# Altium footprint library 便携T12烙铁.PcbLib: 19 footprints (part 2 of 2)
Each footprint in its own frame and in the unit in brackets; x right, y up, seen from the top. Pads: shape width x height; smd on the part's side, far side on the other; paste and mask are expansions set on the pad; w line width, h text height; cw(c..) or ccw(c..) is an arc to the next point about the centre after c.
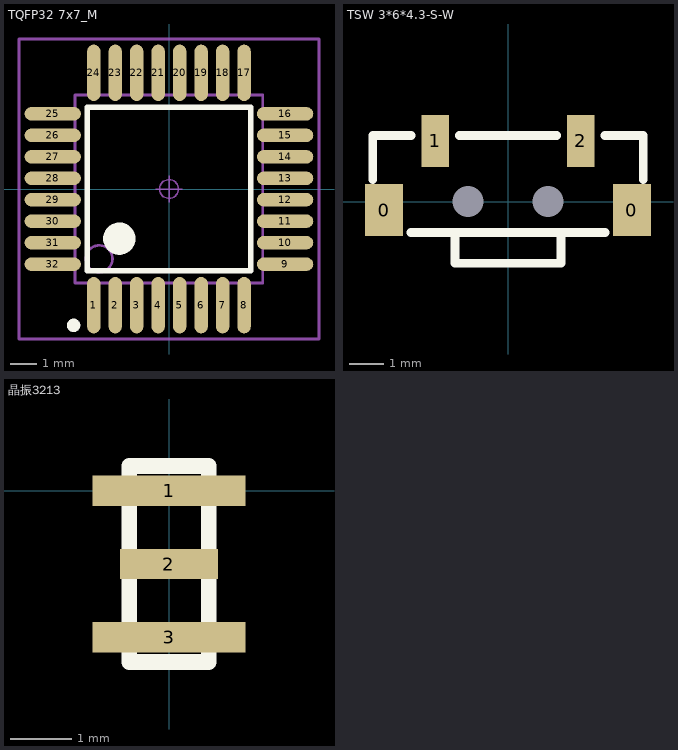
[diagram p1: the footprints below, top view; thin cyan lines are the x and y axes]

## TQFP32 7x7_M [mm] "32脚，体宽：7x7mm, 脚距：0.8mm ATMEGA328P-AU"
height 1.2
pads (32):
  oval 0.5x2.1 smd: 1(-2.803,-4.327) 2(-2.003,-4.327) 3(-1.203,-4.327) 4(-0.403,-4.327) 5(0.397,-4.327) 6(1.197,-4.327) 7(1.997,-4.327) 8(2.797,-4.327) 17(2.797,4.327) 18(1.997,4.327) 19(1.197,4.327) 20(0.397,4.327) 21(-0.403,4.327) 22(-1.203,4.327) 23(-2.003,4.327) 24(-2.803,4.327)
  oval 2.1x0.5 smd: 9(4.324,-2.8) 10(4.324,-2) 11(4.324,-1.2) 12(4.324,-0.4) 13(4.324,0.4) 14(4.324,1.2) 15(4.324,2) 16(4.324,2.8) 25(-4.33,2.8) 26(-4.33,2) 27(-4.33,1.2) 28(-4.33,0.4) 29(-4.33,-0.4) 30(-4.33,-1.2) 31(-4.33,-2) 32(-4.33,-2.8)
Top Overlay:
  circle w0.25: c-3.556,-5.08 r0.125
  circle w0.6: c-1.853,-1.85 r0.3
  lines w0.2: -3.048,-3.048 3.048,-3.048 3.048,3.048 -3.048,3.048 -3.048,-3.048
Mechanical 13:
  circle w0.1: c-2.603,-2.6 r0.5
  lines w0.1: -3.503,-3.5 3.497,-3.5 3.497,3.5 -3.503,3.5 -3.503,-3.5
Mechanical 15:
  circle w0.05: c0,0 r0.35
  lines w0.05: -0.5,0 0.5,0 ; 0,-0.5 0,0.5
  lines w0.1: -5.588,-5.588 5.588,-5.588 5.588,5.588 -5.588,5.588 -5.588,-5.588
3D body "TQFP32 7x7.STEP": height 1.05, standoff 0, extent -4.505,-4.502 4.499,4.502

## TSW 3*6*4.3-S-W [mm] "侧立贴片3*6*4.3"
pads (6):
  rect 1.1x1.5 smd: 0(-3.575,-0.25) 0(3.575,-0.25)
  round 0 hole 0.9: 0(-1.15,0) 0(1.15,0)
  rect 0.8x1.5 smd: 1(-2.1,1.75) 2(2.1,1.75)
Top Overlay:
  lines w0.254: -3.9,0.635 -3.9,1.9 -3.895,1.905 -2.794,1.905 ; -2.794,-0.889 2.794,-0.889 ; -1.524,-0.889 -1.524,-1.778 1.524,-1.778 1.524,-0.889 ; -1.397,1.905 1.397,1.905 ; 2.794,1.905 3.895,1.905 3.9,1.91 3.9,0.635
3D body "TSW 3x6x4.3-S-W.STEP": height 3.51, standoff -0.74, extent -3.9,-1.79 3.9,1.91

## 晶振3213 [mil] "晶振3213"
pads (3):
  rect 98.5x19.6 smd: 1(0,0) 3(0,-94.4)
  rect 63x19.6 smd: 2(-0.05,-47.2)
Top Overlay:
  lines w10: -25.55,-110.2 25.55,-110.2 25.55,15.8 -25.55,15.8 -25.55,-110.2
3D body "OSC 3215-2.STEP": height 24.02, standoff -0.39, extent -29.58,-110.19 29.48,15.79